# Altium schematic symbol library Power_Component_Symbols.SchLib: 5 symbols
Pins are listed as number, name and electrical type; pins without a type are passive.

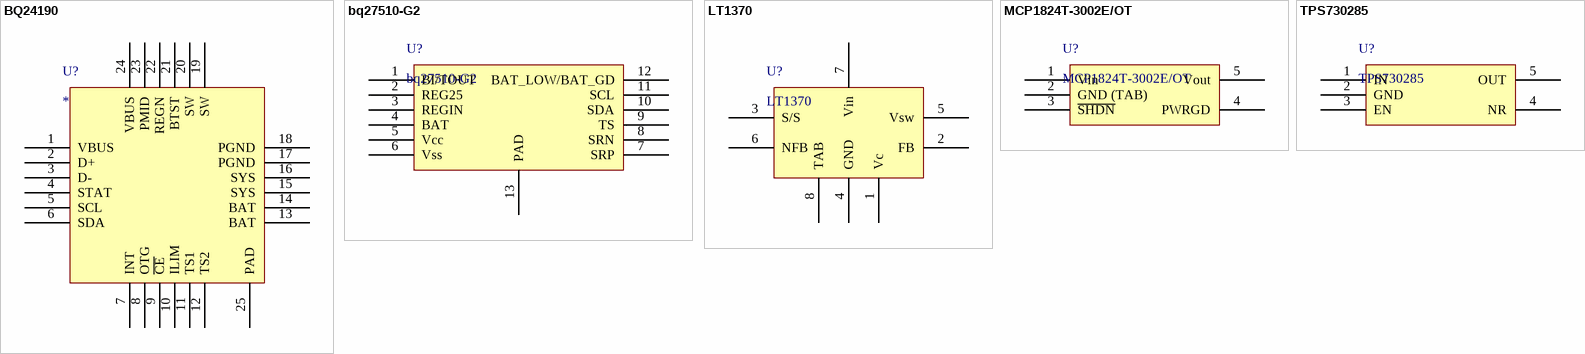
[diagram p0: symbols BQ24190 to TPS730285]

## BQ24190
designator U?
I2C Controlled 4.5A Single Cell LiPo Charger w/ USB
footprint QFN50P400X400-24V9L (QFN, 24-Leads, Body 4x4mm, Pitch 0.5mm, IPC High Density)
footprint QFN50P400X400-24V9M (QFN, 24-Leads, Body 4x4mm, Pitch 0.5mm, IPC Low Density)
footprint QFN50P400X400-24V9N (QFN, 24-Leads, Body 4x4mm, Pitch 0.5mm, IPC Medium Density)
pins: 1 VBUS (power), 2 D+, 3 D-, 4 STAT, 5 SCL, 6 SDA, 7 INT, 8 OTG, 9 ~{CE}, 10 ILIM, 11 TS1, 12 TS2, 13 BAT (power), 14 BAT (power), 15 SYS (power), 16 SYS (power), 17 PGND (power), 18 PGND (power), 19 SW, 20 SW, 21 BTST, 22 REGN, 23 PMID, 24 VBUS (power), 25 PAD (power)

## bq27510-G2
designator U?
System-Side Impedance Track Fuel Gauge With Direct Battery Connection
footprint SON12 (12-pin 2.5mm x 4mm SON)
pins: 1 BI/TOUT, 2 REG25, 3 REGIN, 4 BAT, 5 Vcc, 6 Vss, 7 SRP, 8 SRN, 9 TS, 10 SDA, 11 SCL, 12 BAT_LOW/BAT_GD, 13 PAD

## LT1370
designator U?
500kHz High Efficiency 6A Switching Regulator
footprint TO127P1520-8L (D2-PAK, 8-Leads, Body 9x10.2mm, Pitch 1.27mm, Lead Span 15.2mm, IPC High Density)
footprint TO127P1520-8M (D2-PAK, 8-Leads, Body 9x10.2mm, Pitch 1.27mm, Lead Span 15.2mm, IPC Low Density)
footprint TO127P1520-8N (D2-PAK, 8-Leads, Body 9x10.2mm, Pitch 1.27mm, Lead Span 15.2mm, IPC Medium Density)
pins: 1 Vc, 2 FB, 3 S/S, 4 GND, 5 Vsw, 6 NFB, 7 Vin, 8 TAB

## MCP1824T-3002E/OT
designator U?
300 mA, Low Voltage, Low Quiescent Current LDO Regulator
footprint SOT23-5AL (SOT23, 5-Leads, Body 2.9x1.6mm, Pitch 0.95mm, Lead Span 2.8mm, IPC High Density)
footprint SOT23-5AM (SOT23, 5-Leads, Body 2.9x1.7mm, Pitch 0.95mm, Lead Span 2.8mm, IPC Low Density)
footprint SOT23-5AN (SOT23, 5-Leads, Body 2.9x1.6mm, Pitch 0.95mm, Lead Span 2.8mm, IPC Medium Density)
pins: 1 Vin, 2 GND (TAB), 3 ~{SHDN}, 4 PWRGD, 5 Vout

## TPS730285
designator U?
LOW-NOISE, HIGH PSRR, RF 200-mA LOW-DROPOUT LINEAR REGULATOR
footprint SOT23-5AL (SOT23, 5-Leads, Body 2.9x1.6mm, Pitch 0.95mm, Lead Span 2.8mm, IPC High Density)
footprint SOT23-5AM (SOT23, 5-Leads, Body 2.9x1.7mm, Pitch 0.95mm, Lead Span 2.8mm, IPC Low Density)
footprint SOT23-5AN (SOT23, 5-Leads, Body 2.9x1.6mm, Pitch 0.95mm, Lead Span 2.8mm, IPC Medium Density)
pins: 1 IN, 2 GND, 3 EN, 4 NR, 5 OUT